# Altium footprint library TRACKS_MULTILAYER.PcbLib: 1 footprints
Each footprint in its own frame and in the unit in brackets; x right, y up, seen from the top. Pads: shape width x height; smd on the part's side, far side on the other; paste and mask are expansions set on the pad; w line width, h text height; cw(c..) or ccw(c..) is an arc to the next point about the centre after c.
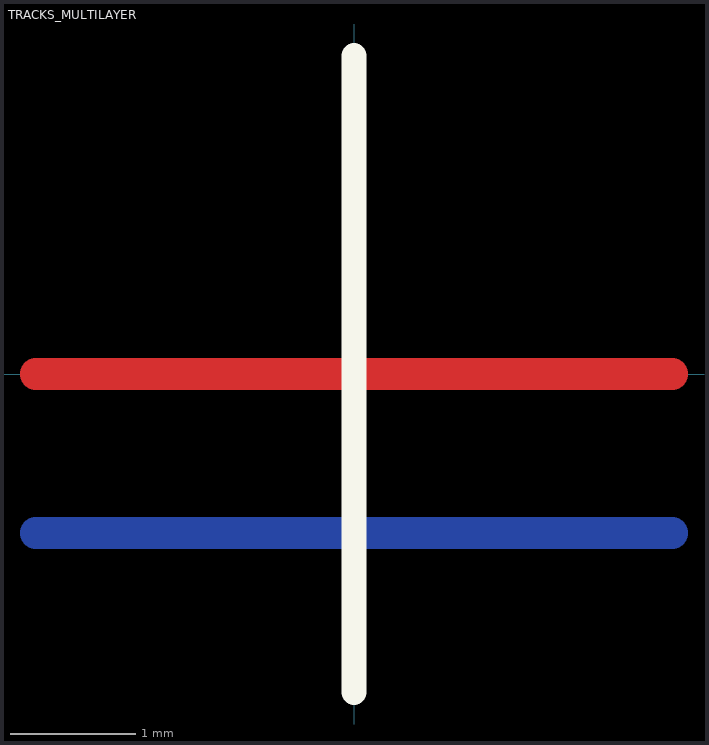
[diagram p0: the footprint, top view; thin cyan lines are the x and y axes]

## TRACKS_MULTILAYER [mm] "Tracks on various layers"
Top Layer:
  lines w0.254: -2.54,0 2.54,0
Bottom Layer:
  lines w0.254: -2.54,-1.27 2.54,-1.27
Top Overlay:
  lines w0.203: 0,-2.54 0,2.54